# Altium footprint library HEADER_0.8mm_2x18P_G.PcbLib: 1 footprints
Each footprint in its own frame and in the unit in brackets; x right, y up, seen from the top. Pads: shape width x height; smd on the part's side, far side on the other; paste and mask are expansions set on the pad; w line width, h text height; cw(c..) or ccw(c..) is an arc to the next point about the centre after c.
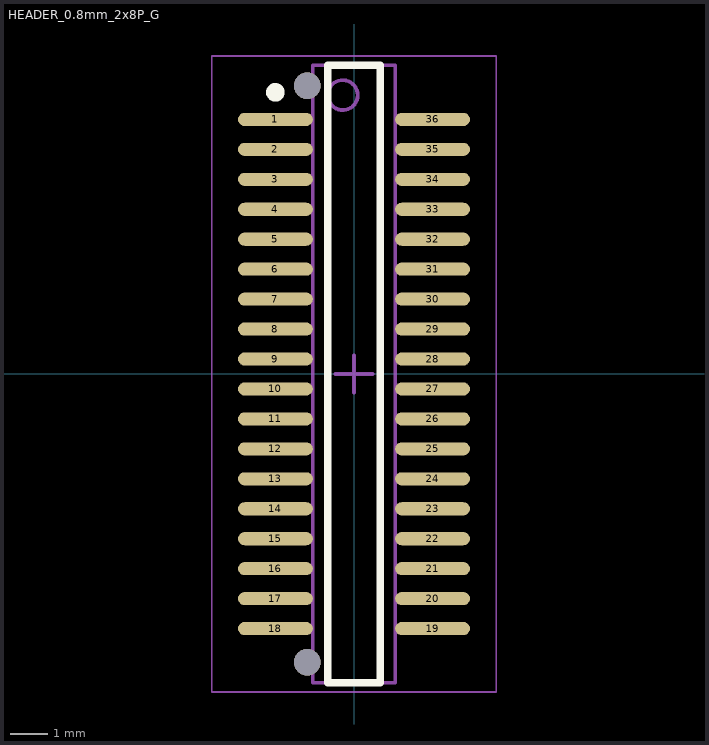
[diagram p0: the footprint, top view; thin cyan lines are the x and y axes]

## HEADER_0.8mm_2x8P_G [mm] "0.8间距2x18P公座，SMD"
height 2
pads (36):
  oval 2x0.35 smd: 1(-2.1,6.8) 2(-2.1,6) 3(-2.1,5.2) 4(-2.1,4.4) 5(-2.1,3.6) 6(-2.1,2.8) 7(-2.1,2) 8(-2.1,1.2) 9(-2.1,0.4) 10(-2.1,-0.4) 11(-2.1,-1.2) 12(-2.1,-2) 13(-2.1,-2.8) 14(-2.1,-3.6) 15(-2.1,-4.4) 16(-2.1,-5.2) 17(-2.1,-6) 18(-2.1,-6.8) 19(2.1,-6.8) 20(2.1,-6) 21(2.1,-5.2) 22(2.1,-4.4) 23(2.1,-3.6) 24(2.1,-2.8) 25(2.1,-2) 26(2.1,-1.2) 27(2.1,-0.4) 28(2.1,0.4) 29(2.1,1.2) 30(2.1,2) 31(2.1,2.8) 32(2.1,3.6) 33(2.1,4.4) 34(2.1,5.2) 35(2.1,6) 36(2.1,6.8)
via -1.25,7.7 diameter 0.7 hole 0.7
via -1.25,-7.7 diameter 0.7 hole 0.7
Top Overlay:
  circle w0.25: c-2.1,7.525 r0.125
  lines w0.2: -0.7,-8.25 -0.7,8.25 0.7,8.25 0.7,-8.25 -0.7,-8.25
Mechanical 13:
  circle w0.1: c-0.3,7.45 r0.4
  lines w0.1: -1.1,-8.25 -1.1,8.25 1.1,8.25 1.1,-8.25 -1.1,-8.25
Mechanical 15:
  lines w0.05: -3.8,-8.5 -3.8,8.5 3.8,8.5 3.8,-8.5 -3.8,-8.5
  lines w0.1: -0.5,0 0.5,0 ; 0,-0.5 0,0.5
3D body: height 2, standoff 0.1, extent -1.1,-8.25 1.1,8.25